# Altium schematic symbol library FM_own_parts.SchLib: 9 symbols
Pins are listed as number, name and electrical type; pins without a type are passive.

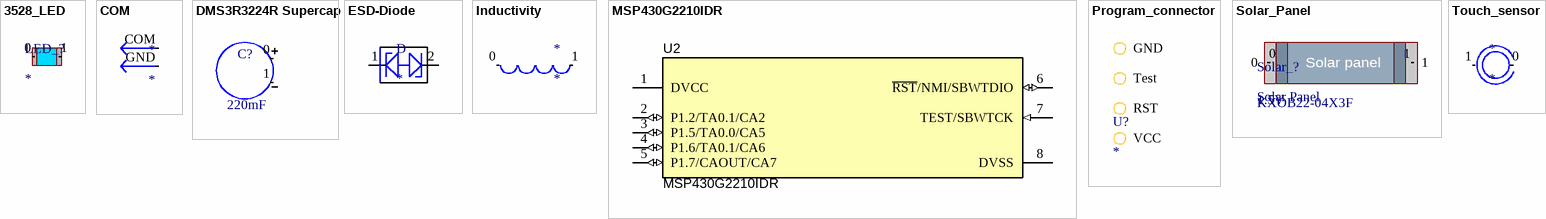
[diagram p0: symbols 3528_LED to Touch_sensor]

## 3528_LED
designator LED_?
footprint 3528_LED
pins: 0, 1

## COM
designator *
footprint Synchronizer
pins: COM Synchronize, GND

## DMS3R3224R Supercap
designator C?
220mF; Capacity: 220mF
footprint DMS3R3224R Supercap
pins: 0, 1

## ESD-Diode
designator D
footprint Schutzdiode
pins: 1, 2

## Inductivity
designator *
footprint Inductivity
pins: 0, 1

## MSP430G2210IDR
designator U2
MIXED SIGNAL MICROCONTROLLER, D0008A; Manufacturer: Texas Instruments; SymbolCreator: Altium; CompType: IC; U/M: EA; SymbolVersion: 2015-05-26; PartNumber: MSP430G2210IDR; Alternate PartNumber: MSP430G2210ID; PackageReference: D0008A; MountType: SMT; ComponentLink1Description: Datasheet Link; ComponentLink1URL: http://www.ti.com/lit/ds/symlink/msp430g2210.pdf; RoHS: Y; Publisher: Texas Instruments; LatestRevisionDate: 2015-05-28; Alternate Manufacturer: Texas Instruments
footprint MSP430G2210 (SOIC, 8-Leads, Body 4.9x3.9mm, Pitch 1.27mm, IPC Medium Density)
pins: 1 DVCC (power), 2 P1.2/TA0.1/CA2 (io), 3 P1.5/TA0.0/CA5 (io), 4 P1.6/TA0.1/CA6 (io), 5 P1.7/CAOUT/CA7 (io), 6 ~{RST}/NMI/SBWTDIO (io), 7 TEST/SBWTCK (in), 8 DVSS (power)

## Program_connector
designator U?
footprint Program_connector
pins: 0 VCC, 1 RST, 2 Test, 3 GND

## Solar_Panel
designator Solar_?, comment Solar Panel  Vmpp: 1.5V  Name: KXOB22-04X3F
footprint Solarzelle
pins: 0, 1
text: Solar panel

## Touch_sensor
designator *
footprint Touch_sensor
pins: 0, 1